# Altium footprint library Footprints.PcbLib: 39 footprints (part 2 of 3)
Each footprint in its own frame and in the unit in brackets; x right, y up, seen from the top. Pads: shape width x height; smd on the part's side, far side on the other; paste and mask are expansions set on the pad; w line width, h text height; cw(c..) or ccw(c..) is an arc to the next point about the centre after c.
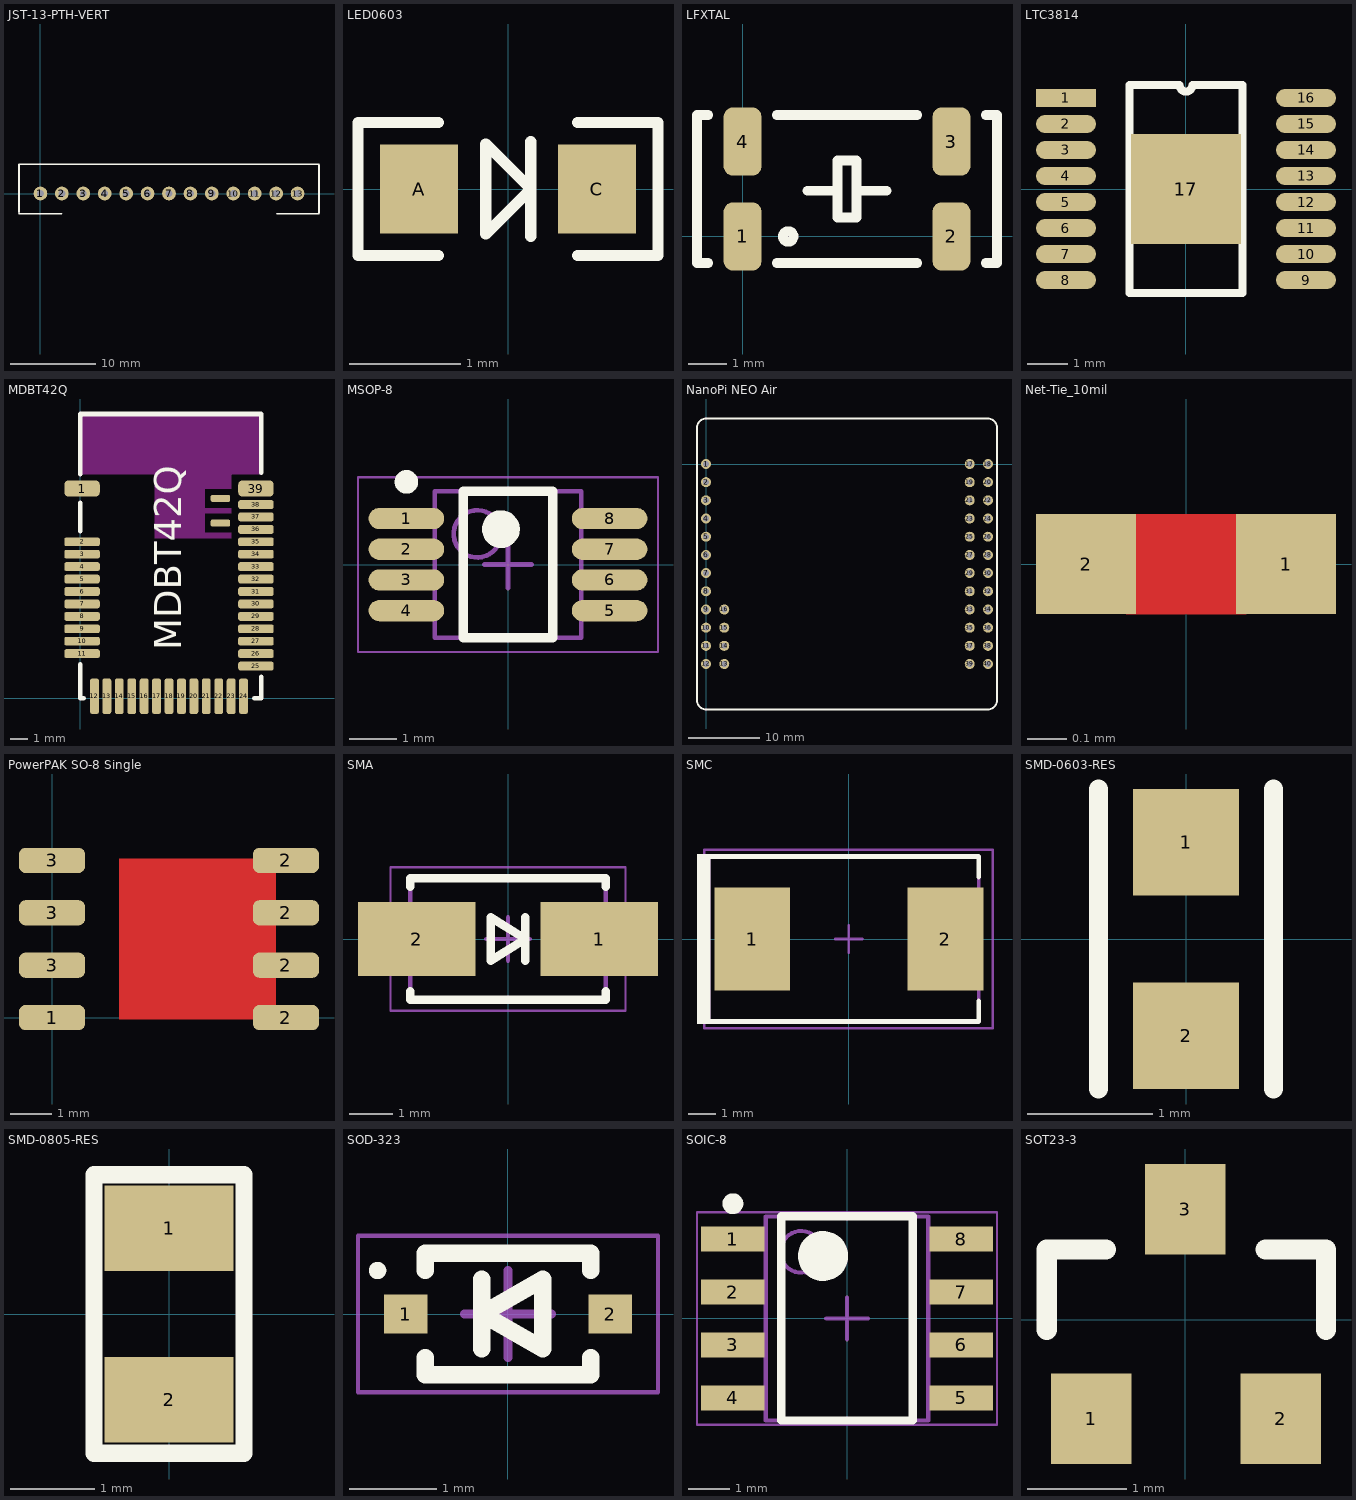
[diagram p1: the footprints below, top view; thin cyan lines are the x and y axes]

## JST-13-PTH-VERT [mil]
pads (13):
  round 63 hole 31.5: 1(0,0) 2(98.43,0) 3(196.85,0) 4(295.28,0) 5(393.7,0) 6(492.13,0) 7(590.55,0) 8(688.98,0) 9(787.4,0) 10(885.83,0) 11(984.25,0) 12(1082.68,0) 13(1181.1,0)
Top Overlay:
  lines w8: -98.43,-92.52 98.43,-92.52 ; -98.43,-86.61 -98.43,133.86 1279.53,133.86 ; 1086.61,-92.52 1277.56,-92.52 1279.53,-90.55 1279.53,129.92
3D body "B13B-XH-A.STEP": height 275.59, standoff -133.86, extent -96.46,-93.51 1277.56,132.87

## LED0603 [mm]
height 0.35
pads (2):
  rect 0.7x0.8 smd: A(-0.8,0) C(0.8,0)
Top Overlay:
  lines w0.1: -0.625,-0.6 -1.35,-0.6 -1.35,0.6 -0.625,0.6 ; -0.2,-0.405 0.205,0 -0.2,0.405 ; -0.2,-0.4 -0.2,0.4 ; 0.205,-0.425 0.205,0.425 ; 0.625,-0.6 1.35,-0.6 1.35,0.6 0.625,0.6
3D body "LED 0603 APT1608 WHITE.STEP": height 0.75, standoff 0, extent -0.8,-0.4 0.8,0.4

## LFXTAL [mm] "SMD Crystal"
pads (4):
  rrect50% 1x1.8 smd: 1(0,0) 2(5.5,0) 3(5.5,2.5) 4(0,2.5)
Top Overlay:
  circle w0.254: c1.2,0 r0.141
  lines w0.254: -0.9,-0.7 -1.2,-0.7 -1.2,3.2 -0.9,3.2 ; 0.9,-0.7 4.6,-0.7 ; 0.9,3.2 4.6,3.2 ; 1.7,1.2 2.5,1.2 ; 3,1.2 3.8,1.2 ; 6.4,-0.7 6.7,-0.7 6.7,3.2 6.4,3.2 ; 2.5,0.5 2.5,2 3,2 3,0.5 2.5,0.5

## LTC3814 [mm]
pads (17):
  rect 1.5x0.45 smd: 1(-3,2.275)
  oval 1.5x0.45 smd: 2(-3,1.625) 3(-3,0.975) 4(-3,0.325) 5(-3,-0.325) 6(-3,-0.975) 7(-3,-1.625) 8(-3,-2.275) 9(3,-2.275) 10(3,-1.625) 11(3,-0.975) 12(3,-0.325) 13(3,0.325) 14(3,0.975) 15(3,1.625) 16(3,2.275)
  rect 2.74x2.74 smd: 17(0,0)
Top Overlay:
  lines w0.2: -1.415,-2.6 1.415,-2.6 1.415,2.6 0.162,2.6 cw(c0,2.6) -0.162,2.6 -1.415,2.6 -1.415,-2.6

## MDBT42Q [mm] "nRF52832 module"
pads (41):
  rrect50% 2x0.9 smd: 1(0.1,11.8) 39(9.9,11.8)
  rrect50% 2x0.5 smd: 2(0.1,8.8) 3(0.1,8.1) 4(0.1,7.4) 5(0.1,6.7) 6(0.1,6) 7(0.1,5.3) 8(0.1,4.6) 9(0.1,3.9) 10(0.1,3.2) 11(0.1,2.5) 25(9.9,1.8) 26(9.9,2.5) 27(9.9,3.2) 28(9.9,3.9) 29(9.9,4.6) 30(9.9,5.3) 31(9.9,6) 32(9.9,6.7) 33(9.9,7.4) 34(9.9,8.1) 35(9.9,8.8) 36(9.9,9.5) 37(9.9,10.2) 38(9.9,10.9)
  rrect50% 0.5x2 smd: 12(0.8,0.1) 13(1.5,0.1) 14(2.2,0.1) 15(2.9,0.1) 16(3.6,0.1) 17(4.3,0.1) 18(5,0.1) 19(5.7,0.1) 20(6.4,0.1) 21(7.1,0.1) 22(7.8,0.1) 23(8.5,0.1) 24(9.2,0.1)
  rrect50% 1.1x0.4 smd: 40(7.9,11.25) 41(7.9,9.85)
Top Overlay:
  lines w0.254: 0,1.9 0,0 0.2,0 ; 0,9.4 0,11 ; 0,12.6 0,16 10.2,16 10.2,12.7 ; 9.8,0 10.2,0 10.2,1.2
  text "MDBT42Q" at 5.7,2.7 h1.52
Keep-Out Layer:
  region: 0,16 10.2,16 10.2,12.6 8.5,12.6 8.5,11.8 7,11.8 7,10.7 8.5,10.7 8.5,10.4 7,10.4 7,9.3 8.5,9.3 8.5,9 4.2,9 4.2,12.6 0,12.6

## MSOP-8 [mm] "SOP, 8-Leads, Body 3x3mm, Pitch 0.65mm, IPC Medium Density"
pads (8):
  oval 1.6x0.45 smd: 1(-2.15,0.975) 2(-2.15,0.325) 3(-2.15,-0.325) 4(-2.15,-0.975) 5(2.15,-0.975) 6(2.15,-0.325) 7(2.15,0.325) 8(2.15,0.975)
Top Overlay:
  circle w0.25: c-2.15,1.75 r0.125
  circle w0.4: c-0.15,0.75 r0.2
  lines w0.2: -0.95,-1.55 -0.95,1.55 0.95,1.55 0.95,-1.55 -0.95,-1.55
Mechanical 13:
  circle w0.1: c-0.65,0.65 r0.5
  lines w0.1: -1.55,-1.55 -1.55,1.55 1.55,1.55 1.55,-1.55 -1.55,-1.55
Mechanical 15:
  lines w0.05: -3.175,-1.85 -3.175,1.85 3.175,1.85 3.175,-1.85 -3.175,-1.85
  lines w0.1: -0.5,0 0.5,0 ; 0,-0.5 0,0.5
3D body: height 0.05, standoff 0, extent -1.55,-1.55 1.55,1.55

## NanoPi NEO Air [mm]
pads (40):
  round 1.4 hole 0.8: 1(0,0) 2(0,-2.54) 3(0,-5.08) 4(0,-7.62) 5(0,-10.16) 6(0,-12.7) 7(0,-15.24) 8(0,-17.78) 9(0,-20.32) 10(0,-22.86) 11(0,-25.4) 12(0,-27.94) 13(2.54,-27.94) 14(2.54,-25.4) 15(2.54,-22.86) 16(2.54,-20.32) 17(36.83,0) 18(39.37,0) 19(36.83,-2.54) 20(39.37,-2.54) 21(36.83,-5.08) 22(39.37,-5.08) 23(36.83,-7.62) 24(39.37,-7.62) 25(36.83,-10.16) 26(39.37,-10.16) 27(36.83,-12.7) 28(39.37,-12.7) 29(36.83,-15.24) 30(39.37,-15.24) 31(36.83,-17.78) 32(39.37,-17.78) 33(36.83,-20.32) 34(39.37,-20.32) 35(36.83,-22.86) 36(39.37,-22.86) 37(36.83,-25.4) 38(39.37,-25.4) 39(36.83,-27.94) 40(39.37,-27.94)
Top Overlay:
  lines w0.254: -1.27,-33.02 ccw(c0,-33.02) 0,-34.29 39.37,-34.29 ccw(c39.37,-33.02) 40.64,-33.02 40.64,5.08 ccw(c39.37,5.08) 39.37,6.35 0,6.35 ccw(c0,5.08) -1.27,5.08 -1.27,-33.02

## Net-Tie_10mil [mil] "10mil net tie, no solder mask opening, no solder paste"
pads (2):
  rect 10x10 smd paste-5 mask-5: 1(10,0) 2(-10,0)
Top Layer:
  region: 6,-5 -6,-5 -6,5 6,5

## PowerPAK SO-8 Single [mm]
pads (8):
  rrect50% 1.6x0.61 smd: 1(0,0) 2(5.67,0) 2(5.67,1.27) 2(5.67,2.54) 2(5.67,3.81) 3(0,1.27) 3(0,2.54) 3(0,3.81)
Top Layer:
  rectangle: 1.62,-0.05 5.43,3.86
3D body: height 1, standoff 0, extent -0.47,-0.665 5.68,4.485

## SMA [mm] "SMA, 2-Leads, Body 4.57x3.94mm"
height 2.4
pads (2):
  rect 2.7x1.7 smd: 1(2.1,0) 2(-2.1,0)
Top Overlay:
  lines w0.2: -2.25,-1.2 -2.25,-1.4 2.25,-1.4 2.25,-1.2 ; -2.25,1.2 -2.25,1.4 2.25,1.4 2.25,1.2 ; 0.4,-0.5 0.4,0.5 ; -0.4,-0.5 -0.4,0.5 0.4,0 -0.4,-0.5
Mechanical 13:
  lines w0.1: -2.25,-1.395 -2.25,1.395 2.25,1.395 2.25,-1.395 -2.25,-1.395
Mechanical 15:
  lines w0.05: -2.7,-1.65 -2.7,1.65 2.7,1.65 2.7,-1.65 -2.7,-1.65
  lines w0.1: -0.5,0 0.5,0 ; 0,-0.5 0,0.5
3D body "User Library-S1G-1.step": height 2.7, standoff 0, extent -2.8,-1.475 2.8,1.475

## SMC [mil] "Molded Diode, 2-Leads, Body 6.9x5.8mm, IPC Medium Density, based on OnSemi component dimensions and land patterns"
height 94.88
pads (2):
  rect 110x150 smd: 1(-140.49,0) 2(140.49,0)
Top Overlay:
  rectangle: -220.99,-123.5 -200.99,123.5
  lines w7: -210,-120 189,-120 189,-90.25 ; -210,120 189,120 189,90.25
Mechanical 5:
  rectangle: -220.99,-123.5 -200.99,123.5
  lines w5: -210,-120 189,-120 189,120 -210,120
  text ".Designator" at -85,-20 h40
Mechanical 15:
  lines w3.94: -19.69,0 19.68,0 ; 0,-19.68 0,19.68 ; -210.46,-129.92 209.38,-129.92 209.38,129.92 -210.46,129.92 -210.46,-129.92
3D body "SMC_nominal.stp": height 91.35, standoff 0.6, extent -156.49,-116.13 156.5,116.15

## SMD-0603-RES [mm]
pads (2):
  rect 0.85x0.85 smd: 1(0,0.775) 2(0,-0.775)
Top Overlay:
  lines w0.152: -0.7,-1.2 -0.7,1.2 ; 0.7,-1.2 0.7,1.2
3D body "0603.step": height 0.56, standoff 0, extent -0.4,-0.85 0.4,0.85

## SMD-0805-RES [mil]
pads (2):
  rect 60x40 smd: 1(0,40) 2(0,-40)
Top Overlay:
  lines w8: -35,-65 -35,65 35,65 35,-65 -35,-65
3D body "SW3dPS-0805 SMD Resistor.STEP": height 30.79, standoff 0, extent -23.6,-39.36 25.6,39.38

## SOD-323 [mm] "SODFL, 2-Leads, Body 1.30x2.57mm, IPC Medium Density"
height 1.14
pads (2):
  rect 0.5x0.45 smd: 1(-1.175,0) 2(1.175,0)
Top Overlay:
  circle w0.1: c-1.5,0.5 r0.05
  lines w0.2: -0.95,-0.5 -0.95,-0.7 0.95,-0.7 0.95,-0.5 ; -0.95,0.5 -0.95,0.7 0.95,0.7 0.95,0.5 ; -0.3,-0.4 -0.3,0.4 ; -0.3,0 0.4,0.4 0.4,-0.4 -0.3,0
Mechanical 15:
  lines w0.05: -1.725,-0.9 1.725,-0.9 1.725,0.9 -1.725,0.9 -1.725,-0.9
  lines w0.1: -0.5,0 0.5,0 ; 0,-0.5 0,0.5
3D body "User Library-SOD323.step": height 0.98, standoff -0.01, extent -1.25,-0.625 1.25,0.625

## SOIC-8 [mm] "SOIC, 8-Leads, Body 4.9x3.9mm, Pitch 1.27mm"
height 1.75
pads (8):
  rect 1.52x0.6 smd: 1(-2.74,1.905) 2(-2.74,0.635) 3(-2.74,-0.635) 4(-2.74,-1.905) 5(2.74,-1.905) 6(2.74,-0.635) 7(2.74,0.635) 8(2.74,1.905)
Top Overlay:
  circle w0.25: c-2.74,2.755 r0.125
  circle w0.6: c-0.575,1.5 r0.3
  lines w0.2: -1.58,-2.45 -1.58,2.45 1.58,2.45 1.58,-2.45 -1.58,-2.45
Mechanical 13:
  circle w0.1: c-1.1,1.6 r0.5
  lines w0.1: -1.95,-2.45 -1.95,2.45 1.95,2.45 1.95,-2.45 -1.95,-2.45
Mechanical 15:
  lines w0.05: -3.6,-2.55 -3.6,2.55 3.6,2.55 3.6,-2.55 -3.6,-2.55
  lines w0.1: -0.5,0 0.5,0 ; 0,-0.5 0,0.5
3D body: height 1.75, standoff 0.1, extent -1.95,-2.45 1.95,2.45

## SOT23-3 [mil]
pads (3):
  rect 32x36 smd: 1(-37.4,-39.37) 2(38,-39.37) 3(0,44)
Top Overlay:
  lines w8: -55.12,-3.94 -55.12,28 -31.5,28 ; 32,28 56,28 56,-3.94
3D body "SOT-23.stp": height 39.37, standoff 0, extent -58.07,-50.2 60.04,50.2